# EAGLE library part DIO5508 (library BW-Active)
Single cell Li-ion battery charger
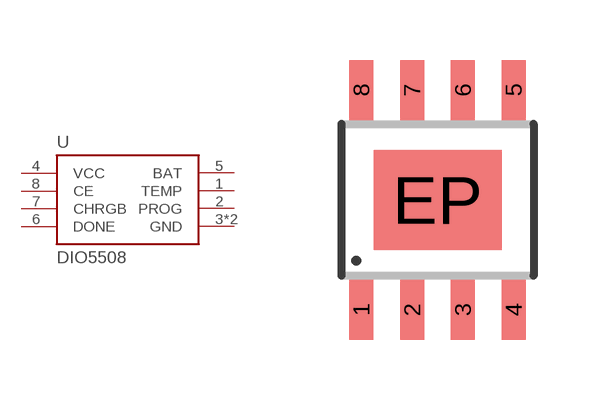
[diagram p35: symbol with the pads of SOIC8-EP; footprint SOIC8-EP]

Designator prefix U

## DIO5508  [SOIC8-EP]
1  TEMP
2  PROG
3  GND
4  VCC
5  BAT
6  DONE
7  CHRGB
8  CE
EP  GND

## Footprint SOIC8-EP (pad centres in mm)
SOIC-8 CASE 751-07 Source: http://www.onsemi.com/pub/Collateral/MC34164-D.PDF D (R-PDSO-G8)PLATIC SMALL-OUTLINE PACKAGE Source: http://focus.ti.com/lit/ds/symlink/tlc27l2.pdf
smd 0.6 x 1.5: 1 -1.905,-2.75; 2 -0.635,-2.75; 3 0.635,-2.75; 4 1.905,-2.75; 5 1.905,2.75; 6 0.635,2.75; 7 -0.635,2.75; 8 -1.905,2.75
smd 3.2 x 2.5: EP 0,0